# Altium schematic symbol library МЦТР.00010592.00.002.SCHLIB: 29 symbols
Pins are listed as number, name and electrical type; pins without a type are passive.

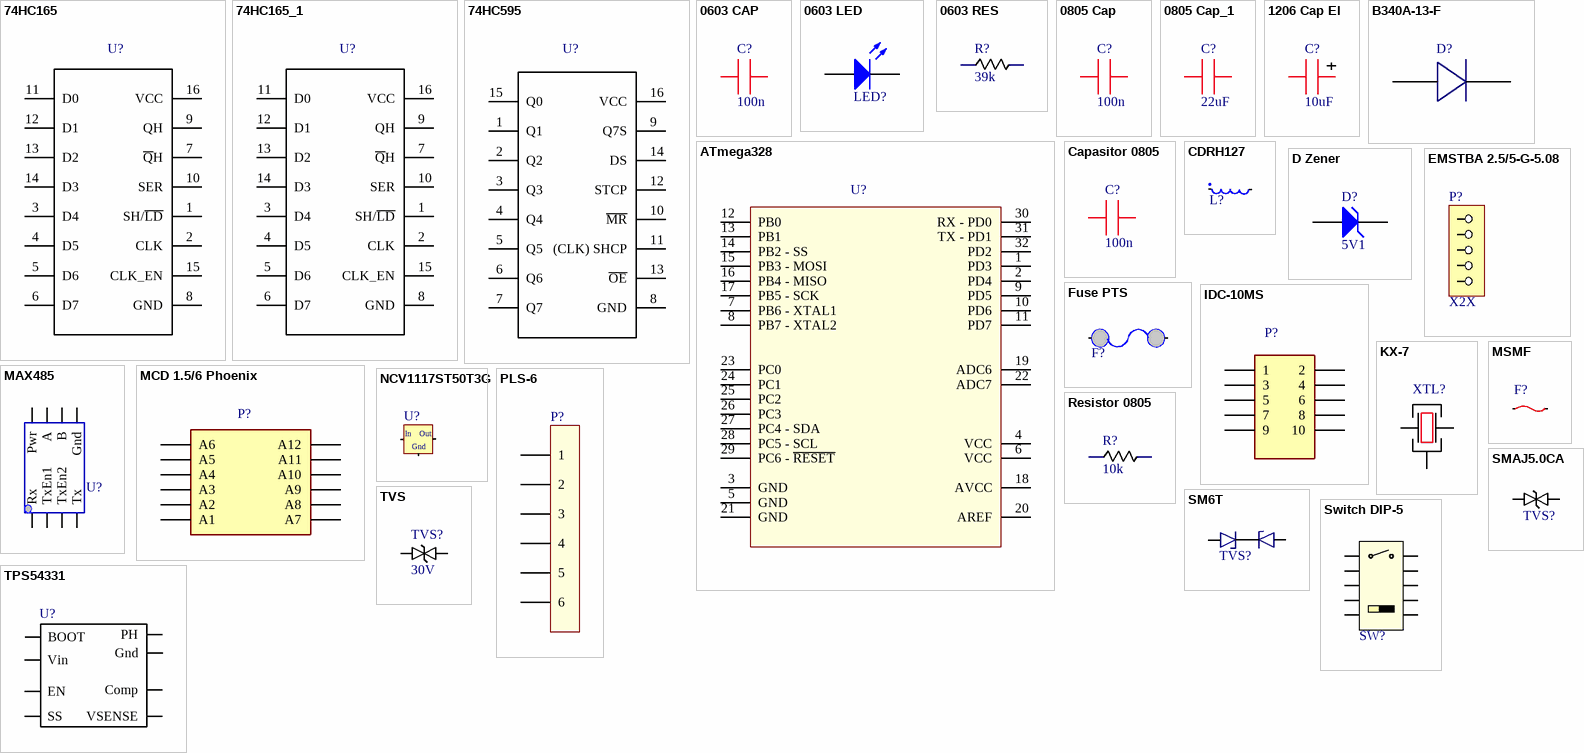
[diagram p0: symbols 74HC165 to TVS]

## 74HC165
designator U?
Part Description: Counter Shift Register; Part Number: 74HC165D.653
footprint SOIC 16
pins: 1 SH/~{LD}, 2 CLK, 3 D4, 4 D5, 5 D6, 6 D7, 7 ~{Q}H, 8 GND, 9 QH, 10 SER, 11 D0, 12 D1, 13 D2, 14 D3, 15 CLK_EN, 16 VCC

## 74HC165_1
designator U?
Part Description: Counter Shift Register; Part Number: 74HC165D.653
footprint SOIC 16
pins: 1 SH/~{LD}, 2 CLK, 3 D4, 4 D5, 5 D6, 6 D7, 7 ~{Q}H, 8 GND, 9 QH, 10 SER, 11 D0, 12 D1, 13 D2, 14 D3, 15 CLK_EN, 16 VCC

## 74HC595
designator U?
Part Description: 8-Bit Shift DDRister/Latch; Part Number: 74HC595D.118
footprint SOIC 16
pins: 1 Q1, 2 Q2, 3 Q3, 4 Q4, 5 Q5, 6 Q6, 7 Q7, 8 GND, 9 Q7S, 10 ~{MR}, 11 (CLK) SHCP, 12 STCP, 13 ~{OE}, 14 DS, 15 Q0, 16 VCC

## 0603 CAP
designator C?, comment 100n
Part Description: Capacitor 0.1uF X7R 0603 10%; Part Number: CC0603KRX7R9BB104
footprint 0603_CAP
pins: 1, 2

## 0603 LED
designator LED?, comment Green  (value not drawn)
Part Description: Single Colour LED Green; Part Number: KP-1608SGC
footprint LED SMD 0603
pins: 1 A, 2 K

## 0603 RES
designator R?, comment 39k
RC0603FR-0739KL; Part Description: Resistor 0603, 39kOhms, 1%, 1/10W; Part Number: RC0603FR-0739KL
footprint 0603
pins: 1, 2

## 0805 Cap
designator C?, comment 100n
Part Description: Capacitor 0.1uF X7R 0603 10%; Part Number: CC0603KRX7R9BB104
footprint 0603
pins: 1, 2

## 0805 Cap_1
designator C?, comment 22uF
Part Description: 22uF X5R 1206 10% HI CV; Part Number: CC1206KKX5R7BB226
footprint 1206
pins: 1, 2

## 1206 Cap El
designator C?, comment 10uF
Part Description: Ceramic Capacitor 10UF 50V 10% 1210; Part Number: GRM32ER71H106KA12L
footprint 1210
pins: 1, 2

## ATmega328
designator U?
Part Description: MCU 8 bit; Part Number: ATmega328P-AU
footprint TQFP
pins: 1 PD3, 2 PD4, 3 GND, 4 VCC, 5 GND, 6 VCC, 7 PB6 - XTAL1, 8 PB7 - XTAL2, 9 PD5, 10 PD6, 11 PD7, 12 PB0, 13 PB1, 14 PB2 - SS, 15 PB3 - MOSI, 16 PB4 - MISO, 17 PB5 - SCK, 18 AVCC, 19 ADC6, 20 AREF, 21 GND, 22 ADC7, 23 PC0, 24 PC1, 25 PC2, 26 PC3, 27 PC4 - SDA, 28 PC5 - SCL, 29 PC6 - ~{RESET}, 30 RX - PD0, 31 TX - PD1, 32 PD2

## B340A-13-F
designator D?
Part Description: Schottky Diodes & Rectifiers 60V 3A; Part Number: B360A-13-F
footprint B340A-13-F
pins: 1 C, 2 A

## Capasitor 0805
designator C?, comment 100n
Part Description: Capacitor 0.1uF X7R 0603 10%; Part Number: CC0603KRX7R9BB104
footprint 0603
pins: 1, 2

## CDRH127
designator L?, comment 33u  (value not drawn)
Part Description: 33uH 30% SMD 1048; Part Number: SRU1048-330Y
footprint SRU1048
pins: 1, 2

## D Zener
designator D?, comment 5V1
Part Description: Zener Diodes 5.1V 250mW; Part Number: BZX84C5V1LT1G
footprint SOT23; pin to pad 2>3
pins: 1 A, 2 K

## EMSTBA 2.5/5-G-5.08
designator P?, comment X2X
Part Number: EMSTBA 2.5/5-G-5.08
footprint PhClass5
pins: 1, 2, 3, 4 2, 5 3

## Fuse PTS
designator F?  (value not drawn)
Part Description: PPTC 30V 50MA; Part Number: MF-USMF005-2
footprint Fuse USMF030
pins: 0, 1

## IDC-10MS
designator P?
Part Number: DS1013-10SSIB1-B-0
footprint IDC-10MS
pins: 1, 2, 3, 4, 5, 6, 7, 8, 9, 10

## KX-7
designator XTL?, comment 16.0 MHz  (value not drawn)
Part Description: Oscillator 16MHz; Part Number: Geyer KX-7T 16.0 MHz
footprint KX-7 XTAL
pins: 1 5, 2, 3 5

## MAX485
designator U?
Part Description: RS-485 Interface IC Low-Power; Part Number: SN65HVD3082EDR
footprint SOIC 8
pins: 1 Rx, 2 TxEn1, 3 TxEn2, 4 Tx, 5 Gnd, 6 B, 7 A, 8 Pwr

## MCD 1.5/6 Phoenix
designator P?  (value not drawn)
Part Number: MCD 1.5/6 Phoenix
footprint mcd 1,5/6-G1-3.81
pins: 1 A6, 2 A12, 3 A5, 4 A11, 5 A4, 6 A10, 7 A3, 8 A9, 9 A2, 10 A8, 11 A1, 12 A7

## MSMF
designator F?, comment Fuse PTS  (value not drawn)
Part Description: PPTC 60V 100MA; Part Number: MF-MSMF010-2
footprint 1210_MF
pins: 1, 2

## NCV1117ST50T3G
designator U?
Part Description: LDO Voltage Regulators 5 V; Part Number: LM1117MPX-5.0
footprint SOT223
pins: 1 GND, 2 OUT, 3 IN
text: In; Out; Gnd

## PLS-6
designator P?
Part Number: PLS-6
footprint PLS-6 2.54
pins: 1, 2, 3, 4, 5, 6

## Resistor 0805
designator R?, comment 10k
Part Description: Resistor 0603, 10kOhms, 1%, 1/10W; Part Number: RC0603FR-0710KL
footprint 0603
pins: 1, 2

## SM6T
designator TVS?
Part Description: TVS Diodes 600W 12V Bidirect; Part Number: SM6T12CA
footprint SM6T
pins: 1, 2

## SMAJ5.0CA
designator TVS?, comment 6V  (value not drawn)
Part Description: TVS Diodes 6volts 800/1600uA 38.8 Amps Bi-Dir; Part Number: SMAJ6.0CA
footprint DO-214AC
pins: 1, 2

## Switch DIP-5
designator SW?
Part Description: Dip switch 5; Part Number: DPL-05-V (DS1040-05RT)
footprint Switch DIP-5 (DIP-Switch 5 Pins)
pins: 1, 2, 3, 4, 5, 6, 7, 8, 9, 10

## TPS54331
designator U?
Part Description: Switching Voltage Regulators 3A 28V In Step Down SWIFT DC/DC; Part Number: TPS54331
footprint SOIC 8
pins: 1 BOOT, 2 Vin, 3 EN, 4 SS, 5 VSENSE, 6 Comp, 7 Gnd, 8 PH

## TVS
designator TVS?, comment 30V
Part Description: TVS Diodes 400W 30V 5% Bi-Directional; Part Number: SMAJ30CA
footprint DO-214AC
pins: 1, 2